# EAGLE library part CONN_LCD (library vikc-display)
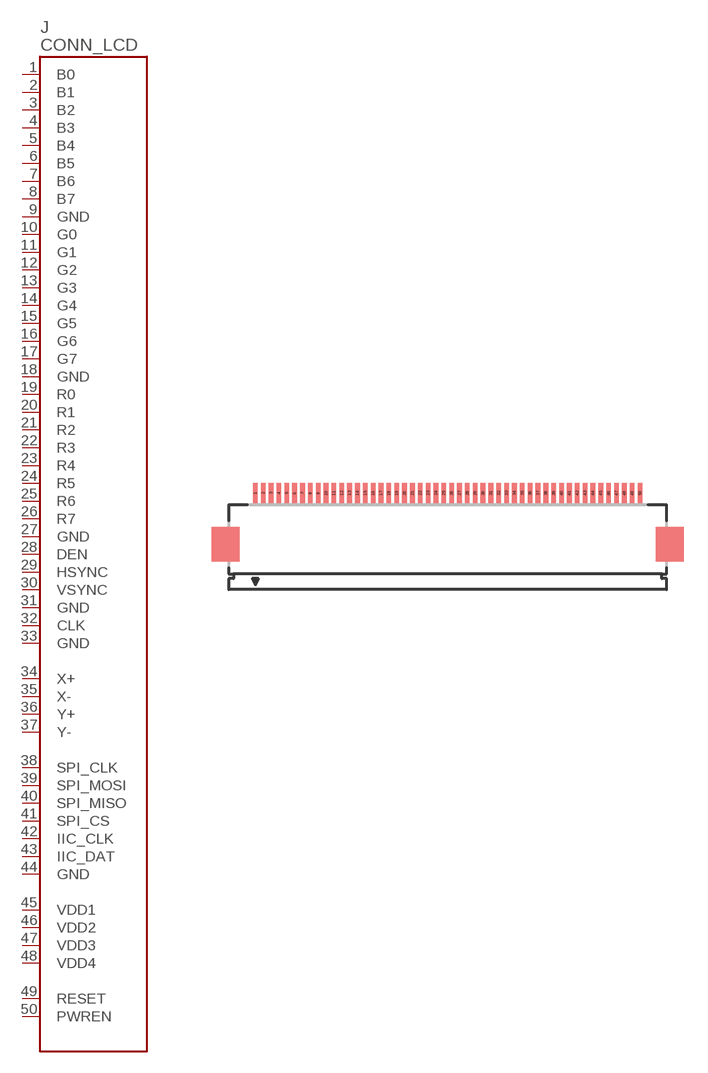
[diagram p0: symbol with the pads of FH12-50S-0.5SH; footprint FH12-50S-0.5SH]

Designator prefix J

## CONN_LCD  [FH12-50S-0.5SH]
1  B0
2  B1
3  B2
4  B3
5  B4
6  B5
7  B6
8  B7
9  GND  pwr
10  G0
11  G1
12  G2
13  G3
14  G4
15  G5
16  G6
17  G7
18  GND  pwr
19  R0
20  R1
21  R2
22  R3
23  R4
24  R5
25  R6
26  R7
27  GND  pwr
28  DEN
29  HSYNC
30  VSYNC
31  GND  pwr
32  CLK
33  GND  pwr
34  X+
35  X-
36  Y+
37  Y-
38  SPI_CLK
39  SPI_MOSI
40  SPI_MISO
41  SPI_CS
42  IIC_CLK
43  IIC_DAT
44  GND  pwr
45  VDD1
46  VDD2
47  VDD3
48  VDD4
49  RESET
50  PWREN

## Footprint FH12-50S-0.5SH (pad centres in mm)
0.5mm Pitch Connectors For FPC/FFC Source: Data sheet <http://www.hirose.co.jp/cataloge_hp/e58605370.pdf>
smd 0.3 x 1.3: 1 -12.25,3.25; 2 -11.75,3.25; 3 -11.25,3.25; 4 -10.75,3.25; 5 -10.25,3.25; 6 -9.75,3.25; 7 -9.25,3.25; 8 -8.75,3.25; 9 -8.25,3.25; 10 -7.75,3.25; 11 -7.25,3.25; 12 -6.75,3.25; 13 -6.25,3.25; 14 -5.75,3.25; 15 -5.25,3.25; 16 -4.75,3.25; 17 -4.25,3.25; 18 -3.75,3.25; 19 -3.25,3.25; 20 -2.75,3.25; 21 -2.25,3.25; 22 -1.75,3.25; 23 -1.25,3.25; 24 -0.75,3.25; 25 -0.25,3.25; 26 0.25,3.25; 27 0.75,3.25; 28 1.25,3.25; 29 1.75,3.25; 30 2.25,3.25; 31 2.75,3.25; 32 3.25,3.25; 33 3.75,3.25; 34 4.25,3.25; 35 4.75,3.25; 36 5.25,3.25; 37 5.75,3.25; 38 6.25,3.25; 39 6.75,3.25; 40 7.25,3.25; 41 7.75,3.25; 42 8.25,3.25; 43 8.75,3.25; 44 9.25,3.25; 45 9.75,3.25; 46 10.25,3.25; 47 10.75,3.25; 48 11.25,3.25; 49 11.75,3.25; 50 12.25,3.25